# EAGLE library part MC14490DWG (library On Semiconductor)
Hex Contact Bounce Eliminator
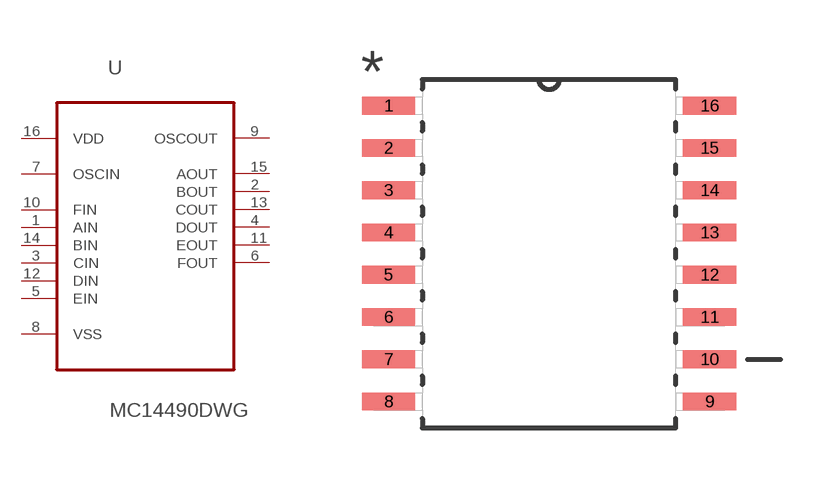
[diagram p270: symbol with the pads of SOIC127P1030X265-16N; footprint SOIC127P1030X265-16N]

Designator prefix U

## MC14490DWG (MPN: MC14490DWG; OC_FARNELL: 1191828; OC_NEWARK: 26K3951; PACKAGE: SOIC-16; SUPPLIER: ON SEMICONDUCTOR)  [SOIC127P1030X265-16N]
1  AIN  in
2  BOUT  out
3  CIN  in
4  DOUT  out
5  EIN  in
6  FOUT  out
7  OSCIN  in
8  VSS  pas
9  OSCOUT  out
10  FIN  in
11  EOUT  out
12  DIN  in
13  COUT  out
14  BIN  in
15  AOUT  out
16  VDD  pwr

## Footprint SOIC127P1030X265-16N (pad centres in mm)
smd 1.6 x 0.533: 1 -4.826,4.445; 2 -4.826,3.175; 3 -4.826,1.905; 4 -4.826,0.635; 5 -4.826,-0.635; 6 -4.826,-1.905; 7 -4.826,-3.175; 8 -4.826,-4.445; 9 4.826,-4.445; 10 4.826,-3.175; 11 4.826,-1.905; 12 4.826,-0.635; 13 4.826,0.635; 14 4.826,1.905; 15 4.826,3.175; 16 4.826,4.445